# EAGLE library part CONN-OSTTE1201X4 (library FirePick)
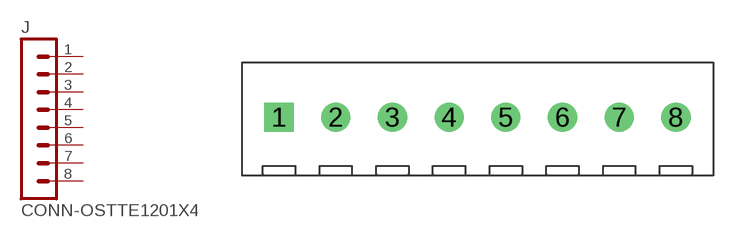
[diagram p14: symbol with the pads of CONN-OSTTE1201X4; footprint CONN-OSTTE1201X4]

Designator prefix J

## CONN-OSTTE1201X4  [CONN-OSTTE1201X4]
1  1  pas
2  2  pas
3  3  pas
4  4  pas
5  5  pas
6  6  pas
7  7  pas
8  8  pas

## Footprint CONN-OSTTE1201X4 (pad centres in mm)
drill 1.2 square: 1 -12.25,0
drill 1.2: 2 -8.75,0; 3 -5.25,0; 4 -1.75,0; 5 1.75,0; 6 5.25,0; 7 8.75,0; 8 12.25,0